# EAGLE library part MICROBUILDER_BMP388 (library Adafruit BMP390)
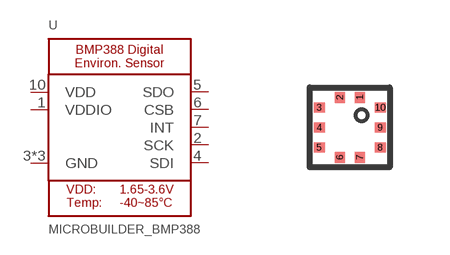
[diagram p0: symbol with the pads of MICROBUILDER_BMP388; footprint MICROBUILDER_BMP388]

Designator prefix -

## MICROBUILDER_BMP388  [MICROBUILDER_BMP388]
1  VDDIO  pwr
2  SCK  in
3  GND  pwr
4  SDI  in
5  SDO  out
6  CSB  in
7  INT  out
8  GND  pwr
9  GND  pwr
10  VDD  pwr

## Footprint MICROBUILDER_BMP388 (pad centres in mm)
smd 0.25 x 0.275: 1 0.25,0.75; 2 -0.25,0.75; 6 -0.25,-0.75; 7 0.25,-0.75
smd 0.275 x 0.25: 3 -0.762,0.5; 4 -0.762,0; 5 -0.762,-0.5; 8 0.762,-0.5; 9 0.762,0; 10 0.762,0.5